# Altium footprint library Buzzer XDCR_CMT-7525-80-SMT-TR.PcbLib: 1 footprints
Each footprint in its own frame and in the unit in brackets; x right, y up, seen from the top. Pads: shape width x height; smd on the part's side, far side on the other; paste and mask are expansions set on the pad; w line width, h text height; cw(c..) or ccw(c..) is an arc to the next point about the centre after c.
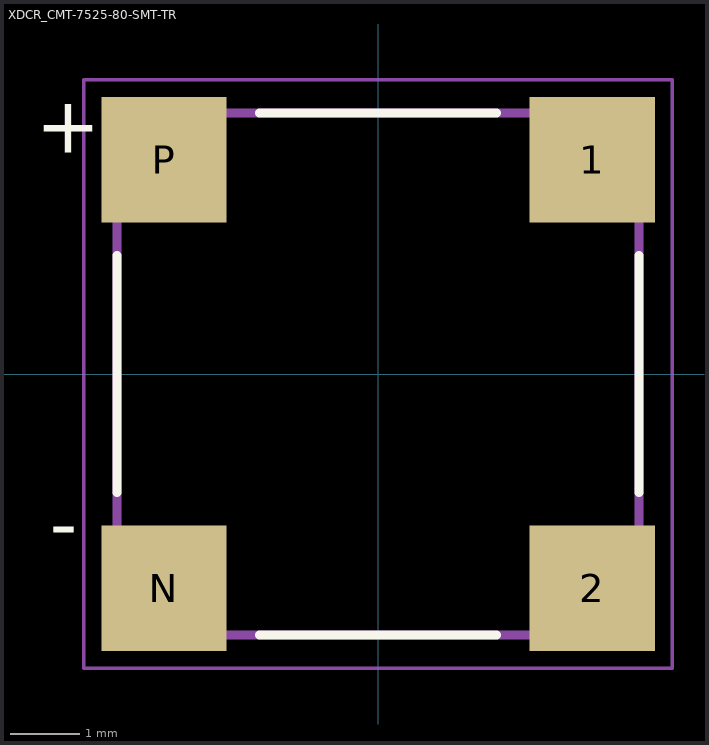
[diagram p0: the footprint, top view; thin cyan lines are the x and y axes]

## XDCR_CMT-7525-80-SMT-TR [mm]
height 2.5
pads (4):
  rect 1.8x1.8 smd: 1(3.075,3.075) 2(3.075,-3.075) N(-3.075,-3.075) P(-3.075,3.075)
Top Overlay:
  lines w0.127: -3.75,-1.7 -3.75,1.7 ; -1.7,-3.75 1.7,-3.75 ; -1.7,3.75 1.7,3.75 ; 3.75,-1.7 3.75,1.7
  text "-" at -4.715,-2.54 h0.81
  text "+" at -4.915,3.175 h0.81
Mechanical 13:
  lines w0.127: -3.75,-3.75 -3.75,3.75 3.75,3.75 3.75,-3.75 -3.75,-3.75
  text "+" at -4.915,3.175 h0.81
  text "-" at -4.715,-2.54 h0.81
Mechanical 15:
  lines w0.05: -4.225,-4.225 4.225,-4.225 4.225,4.225 -4.225,4.225 -4.225,-4.225